# EAGLE library part TS5A4624 (library ts5a4624)
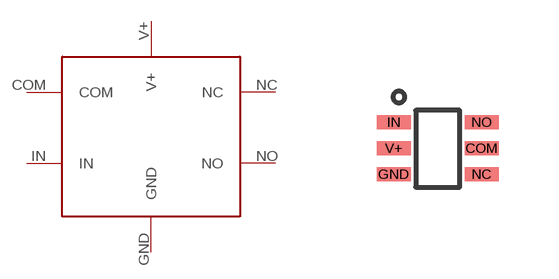
[diagram p0: symbol with the pads of TS5A4624; footprint TS5A4624]

Designator prefix -

## TS5A4624  [TS5A4624]
COM  COM
GND  GND
IN  IN
NC  NC
NO  NO
V+  V+

## Footprint TS5A4624 (pad centres in mm)
smd 0.85 x 0.35: COM 2.2,0.65; GND 0,0; IN 0,1.3; NC 2.2,0; NO 2.2,1.3; V+ 0,0.65